# Altium footprint library veml7700_connector_footprint.PcbLib: 1 footprints
Each footprint in its own frame and in the unit in brackets; x right, y up, seen from the top. Pads: shape width x height; smd on the part's side, far side on the other; paste and mask are expansions set on the pad; w line width, h text height; cw(c..) or ccw(c..) is an arc to the next point about the centre after c.
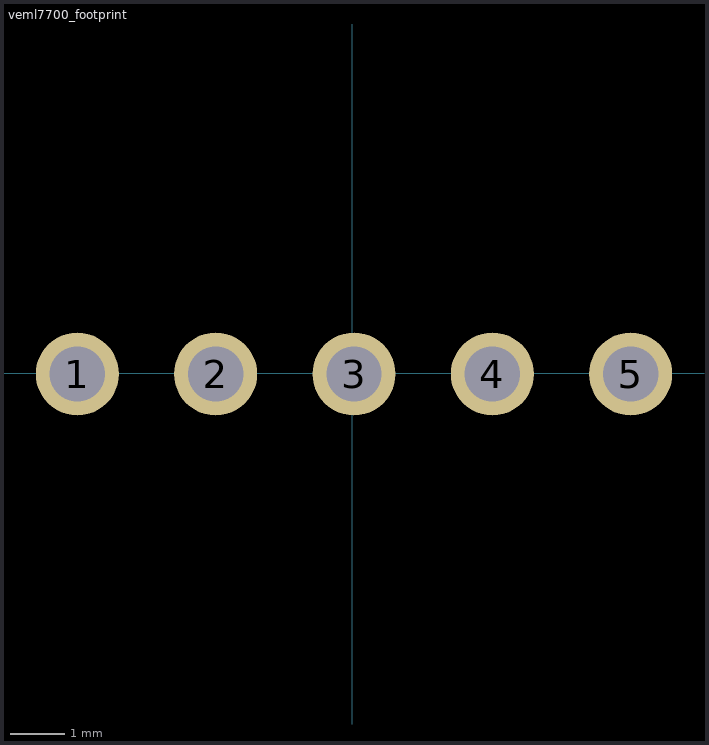
[diagram p0: the footprint, top view; thin cyan lines are the x and y axes]

## veml7700_footprint [mil]
pads (5):
  round 60 hole 40: 1(-198.7,-0.43) 2(-98.7,-0.43) 3(1.3,-0.43) 4(101.3,-0.43) 5(201.3,-0.43)